# EAGLE library part SBH41-NBPB-D05-SP (library con-sullins)
HEADER - Vertical, Shrouded
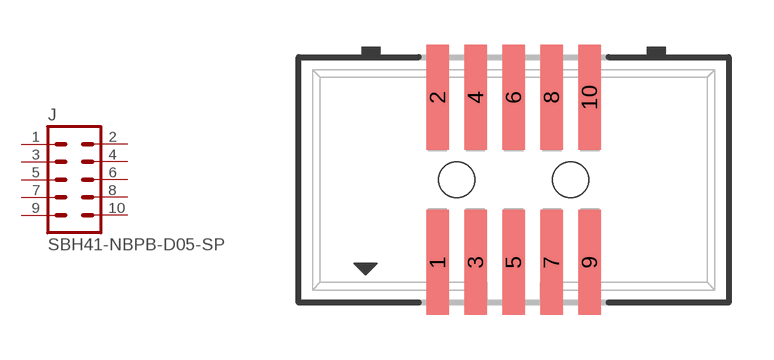
[diagram p42: symbol with the pads of SBH41-NBPB-D05-SP; footprint SBH41-NBPB-D05-SP]

Designator prefix J

## SBH41-NBPB-D05-SP  [SBH41-NBPB-D05-SP]
1  1  pas
2  2  pas
3  3  pas
4  4  pas
5  5  pas
6  6  pas
7  7  pas
8  8  pas
9  9  pas
10  10  pas

## Footprint SBH41-NBPB-D05-SP (pad centres in mm)
CONNECTOR HEADER 0.05" pitch
smd 0.762 x 3.505: 1 -2.54,-2.756; 2 -2.54,2.756; 3 -1.27,-2.756; 4 -1.27,2.756; 5 0,-2.756; 6 0,2.756; 7 1.27,-2.756; 8 1.27,2.756; 9 2.54,-2.756; 10 2.54,2.756
hole 1.194 at -1.905,0
hole 1.194 at 1.905,0